# Altium schematic symbol library Antenna.SchLib: 4 symbols
Pins are listed as number, name and electrical type; pins without a type are passive.

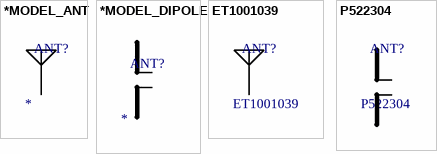
[diagram p0: symbols *MODEL_ANT to P522304]

## *MODEL_ANT
designator ANT?, comment Part Number  (value not drawn)
Description; Mount Type: *; Manufacturer: *; Value: *
pins: 1

## *MODEL_DIPOLE
designator ANT?, comment Part Number  (value not drawn)
Description; Mount Type: *; Manufacturer: *; Value: *
pins: 1, 2

## ET1001039
designator ANT?
Antena HF; Manufacturer: Ethertronics; Mount Type: SMD; Supplier 1: Itech; Supplier Part Number 1: *; Value: ET1001039
footprint ET1001039
pins: 1

## P522304
designator ANT?
CELL ANTENNA 5-BAND 35X9X3.2MM; Manufacturer: Ethertronics; Mount Type: SMD; Supplier 1: Digi-Key; Supplier Part Number 1: 939-1022-1-ND; Value: P522304
footprint P522304 Tunnig
pins: 1, 2